# Altium schematic symbol library Terminal_Block2P.SCHLIB: 1 symbol
Pins are listed as number, name and electrical type; pins without a type are passive.

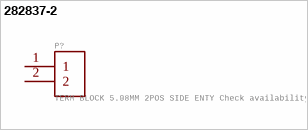
[diagram p0: symbol 282837-2]

## 282837-2
designator P?, comment TERM BLOCK 5.08MM 2POS SIDE ENTY Check availability
GateName_1: G$1; SymbolName_1: 282837-2; MF: TE Connectivity; Description: Connector Terminal Blocks Receptacle 2 Position 5.08mm Solder Straight Thru-Hole 13.5A/Contact; LibraryName: Terminal_Block2P; DeviceSetName: 282837-2; Package: TE_282837-2; Package: None; Price: None; Check_prices: https://www.snapeda.com/parts/282837-2/TE+Connectivity+AMP+Connectors/view-part/?ref=eda; SnapEDA_Link: https://www.snapeda.com/parts/282837-2/TE+Connectivity+AMP+Connectors/view-part/?ref=snap; MP: 282837-2; Availability: In Stock; Purchase-URL: https://pricing.snapeda.com/search?q=282837-2&ref=eda
footprint TE_282837-2
pins: 1, 2